# Altium footprint library Discrete.PcbLib: 39 footprints (part 2 of 3)
Each footprint in its own frame and in the unit in brackets; x right, y up, seen from the top. Pads: shape width x height; smd on the part's side, far side on the other; paste and mask are expansions set on the pad; w line width, h text height; cw(c..) or ccw(c..) is an arc to the next point about the centre after c.
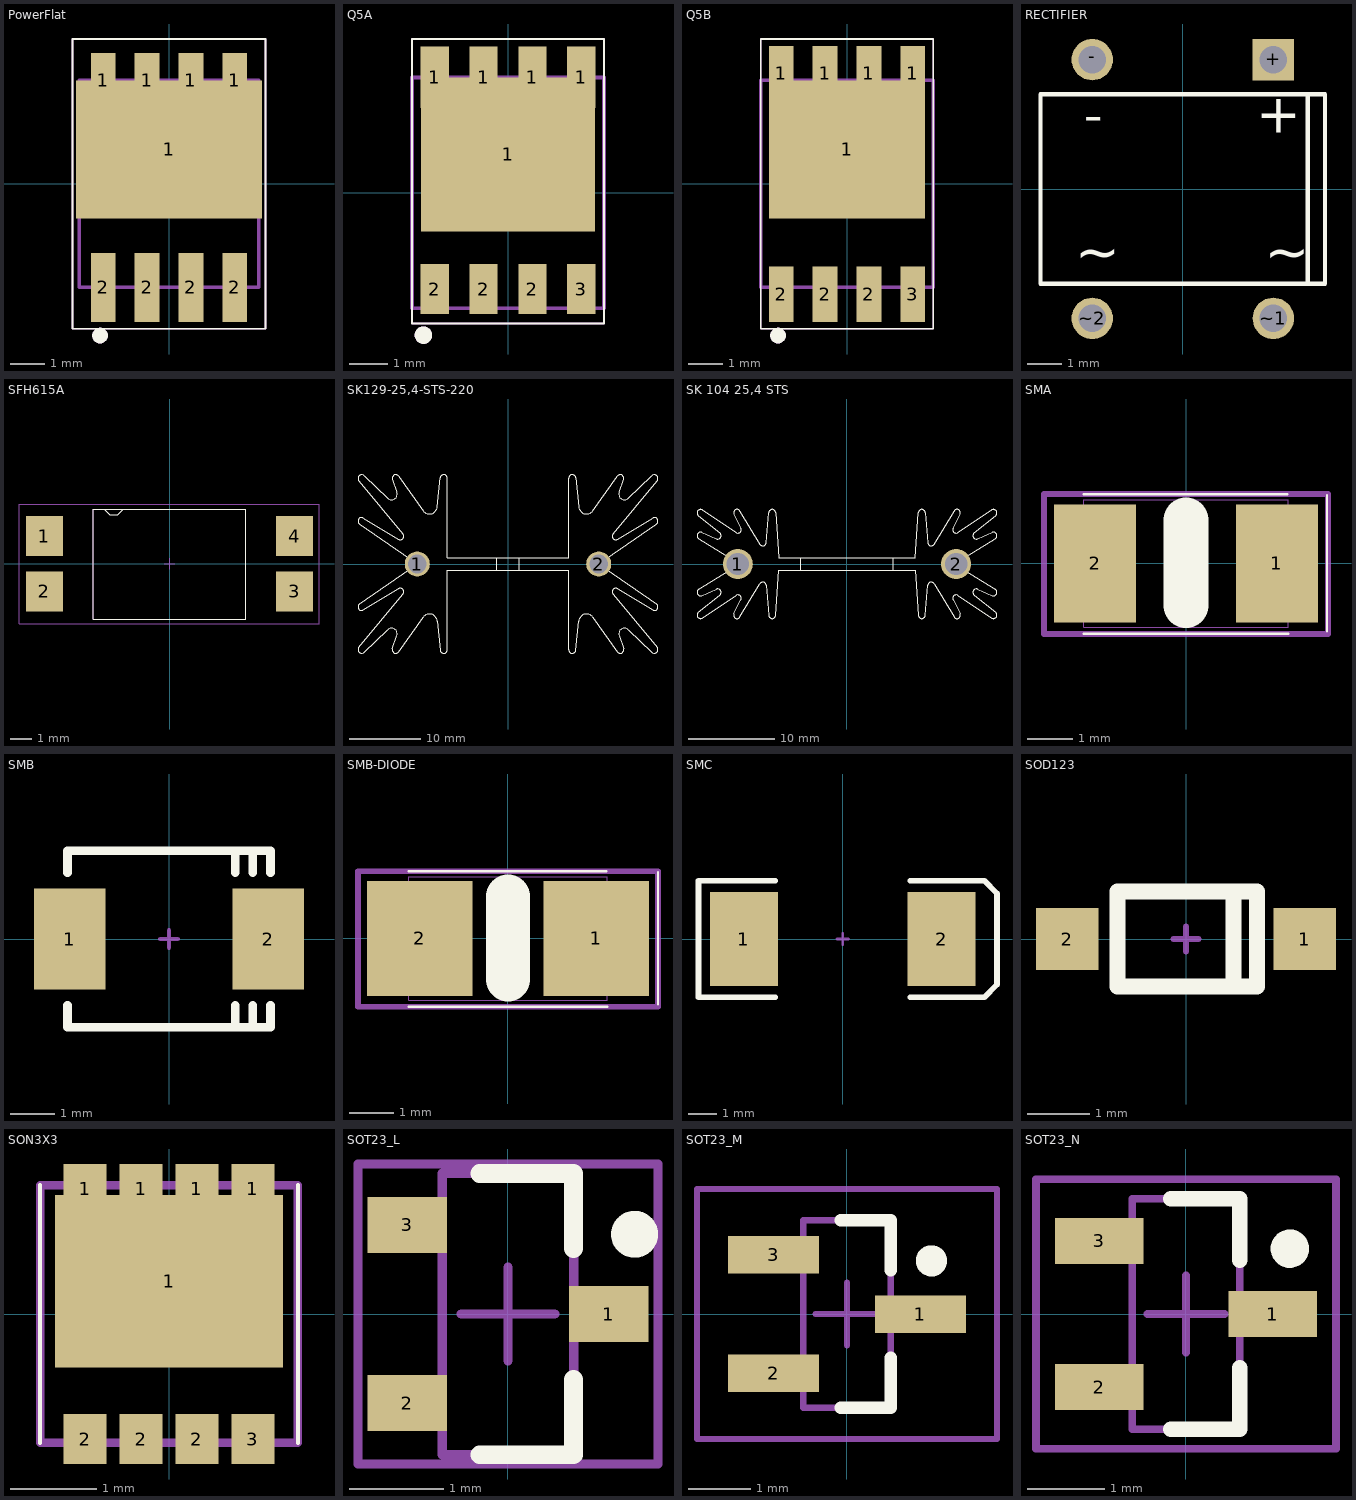
[diagram p1: the footprints below, top view; thin cyan lines are the x and y axes]

## PowerFlat [mm] "6.15mmx5.20mm"
height 1
pads (9):
  rect 0.72x1.6 smd: 1(-1.905,3) 1(-0.635,3) 1(0.635,3) 1(1.905,3)
  rect 5.4x4 smd: 1(0,1)
  rect 0.72x2 smd: 2(-1.905,-3) 2(-0.635,-3) 2(0.635,-3) 2(1.905,-3)
Top Overlay:
  circle w0.254: c-2,-4.4 r0.1
  lines w0.05: -2.8,-4.2 2.8,-4.2 2.8,4.2 -2.8,4.2 -2.8,-4.2
Mechanical 13:
  lines w0.1: -2.6,-3 -2.6,3 2.6,3 2.6,-3 -2.6,-3
Mechanical 15:
  circle w0.254: c-2,-4.4 r0.1
  lines w0.05: -2.8,-4.2 2.8,-4.2 2.8,4.2 -2.8,4.2 -2.8,-4.2
  lines w0.1: -0.475,0 0.525,0 ; 0,-0.5 0,0.5
3D body: height 1, standoff 0.1, extent -2.6,-3 2.6,3

## Q5A [mm] "Q5A-TI"
height 1.1
pads (9):
  rect 0.73x1.6 smd: 1(-1.905,3) 1(-0.635,3) 1(0.635,3) 1(1.905,3)
  rect 4.53x4 smd: 1(0,1)
  rect 0.73x1.3 smd: 2(-1.905,-2.5) 2(-0.635,-2.5) 2(0.635,-2.5) 3(1.905,-2.5)
Top Overlay:
  circle w0.254: c-2.2,-3.7 r0.1
  lines w0.05: -2.5,-3.4 -2.5,4 2.5,4 2.5,-3.4 -2.5,-3.4
Mechanical 13:
  lines w0.1: -2.5,-3 2.5,-3 2.5,3 -2.5,3 -2.5,-3
Mechanical 15:
  circle w0.254: c-2.2,-3.7 r0.1
  lines w0.05: -2.5,-3.4 -2.5,4 2.5,4 2.5,-3.4 -2.5,-3.4
  lines w0.1: -0.475,0 0.525,0 ; 0,-0.5 0,0.5
3D body: height 1, standoff 0.1, extent -2.5,-3 2.5,3

## Q5B [mm] "Q5B-TI"
height 1.1
pads (9):
  rect 0.72x1.6 smd: 1(-1.905,3.2) 1(-0.635,3.2) 1(0.635,3.2) 1(1.905,3.2) 2(-1.905,-3.2) 2(-0.635,-3.2) 2(0.635,-3.2) 3(1.905,-3.2)
  rect 4.53x4 smd: 1(0,1)
Top Overlay:
  circle w0.254: c-2,-4.4 r0.1
  lines w0.05: -2.5,-4.2 2.5,-4.2 2.5,4.2 -2.5,4.2 -2.5,-4.2
Mechanical 13:
  lines w0.1: -2.5,-3 -2.5,3 2.5,3 2.5,-3 -2.5,-3
Mechanical 15:
  circle w0.254: c-2,-4.4 r0.1
  lines w0.05: -2.5,-4.2 2.5,-4.2 2.5,4.2 -2.5,4.2 -2.5,-4.2
  lines w0.1: -0.475,0 0.525,0 ; 0,-0.5 0,0.5
3D body: height 1, standoff 0.1, extent -2.5,-3 2.5,3

## RECTIFIER [mil] "RECTIFIER"
pads (4):
  rect 48x48 hole 32: +(105,150)
  round 48 hole 32: -(-105,150) ~1(105,-150) ~2(-105,-150)
Top Overlay:
  lines w5: 145,-110 145,110 ; 145,-110 165,-110 165,110 145,110 ; 145,-110 -165,-110 -165,110 145,110
  text "-" at -115,50 h77.5
  text "+" at 85,50 h77.5
  text "~" at 95,-110 h77.5
  text "~" at -125,-110 h77.5
3D body: height 137.8, standoff 27.56, extent 145.67,-110.24 165.35,110.24
3D body: height 157.48, standoff 27.56, extent -165.35,-110.24 145.67,110.24

## SFH615A [mm] "SFH615A-3X018T"
height 3.81
pads (4):
  rect 1.7x1.85 smd: 1(-5.735,1.27) 2(-5.735,-1.27) 3(5.735,-1.27) 4(5.735,1.27)
Top Overlay:
  lines w0.05: -3,2.5 -2.75,2.25 -2.375,2.25 -2.125,2.5 ; -3.5,-2.55 -3.5,2.5 3.5,2.5 3.5,-2.55 -3.5,-2.55
Mechanical 1:
  lines w0.05: -3.5,-2.55 3.5,-2.55 3.5,2.5 -3.5,2.5 -3.5,-2.55
Mechanical 15:
  lines w0.05: -0.25,0 0.25,0 ; 0,-0.25 0,0.25 ; -6.9,-2.75 6.85,-2.75 6.85,2.725 -6.9,2.725 -6.9,-2.75
3D body: height 3.82, standoff 0, extent -3.5,-2.55 3.5,2.5
3D body: height 3.83, standoff 0, extent -3,2.25 -2.15,2.5

## SK129-25,4-STS-220 [mm] "SK129-25,4-STS-220"
height 25
pads (2):
  round 3.5 hole 2.6: 1(-12.7,0) 2(12.7,0)
Top Overlay:
  drawing of 240 lines, arcs and shapes, not listed
3D body "sk_129_25.4_sts.stp": height 25.6, standoff -4.3, extent -20.999,-12.6 20.999,12.4

## SK 104 25,4 STS [mm] "SK 104 25,4 STS"
height 25
pads (2):
  round 3.5 hole 2.6: 1(-12.7,0) 2(12.7,0)
Top Overlay:
  drawing of 248 lines, arcs and shapes, not listed
3D body "sk_104_25.4_sts.stp": height 25.6, standoff -4.3, extent -17.499,-6.3 17.399,6.4

## SMA [mm] "Diode; 2 Leads"
height 2.3
pads (2):
  rect 1.8x2.6 smd: 1(2,0) 2(-2,0)
Top Overlay:
  lines w0.05: -2.25,-1.55 2.25,-1.55 ; -2.25,1.525 2.225,1.525 ; 3.1,-1.5 3.1,1.5
  lines w1: 0,-0.925 0,0.95
Mechanical 1:
  lines w0.025: -2.25,-1.075 -2.25,-1.4 2.25,-1.4 2.25,-1.05 ; -2.25,1.05 -2.25,1.4 2.25,1.4 2.25,1.075
Mechanical 13:
  lines w0.127: -3.125,-1.55 3.125,-1.55 3.125,1.525 -3.125,1.525 -3.125,-1.55
Mechanical 15:
  lines w0.1: -0.2,0 0.2,0 ; 0,-0.2 0,0.2
3D body: height 2.3, standoff 0, extent -2.25,-1.4 1.27,1.4
3D body: height 2.3, standoff 0, extent 1.27,-1.4 2.25,1.4

## SMB [mm] "DO-214-AA/SMB; 2 C-Bend Leads; Body 5.3 x 3.6 mm, inc. leads (LxW)"
height 2.54
pads (2):
  rect 1.62x2.3 smd: 1(-2.25,0) 2(2.25,0)
Top Overlay:
  lines w0.2: -2.3,-1.5 -2.3,-2 2.3,-2 2.3,-1.5 ; -2.3,1.5 -2.3,2 2.3,2 2.3,1.5 ; 1.5,-2 1.5,-1.5 ; 1.5,1.5 1.5,2 ; 1.9,-2 1.9,-1.5 ; 1.9,1.5 1.9,2
Mechanical 15:
  lines w0.1: -0.2,0 0.2,0 ; 0,-0.2 0,0.2
3D body: height 2.6, standoff 0.1, extent 1.5,-2 2.3,2
3D body: height 2.6, standoff 0.1, extent -2.3,-2 1.5,2

## SMB-DIODE [mm] "Diode; 2 Leads"
height 2.3
pads (2):
  rect 2.4x2.6 smd: 1(2,0) 2(-2,0)
Top Overlay:
  lines w0.05: -2.25,-1.55 2.25,-1.55 ; -2.25,1.525 2.225,1.525 ; 3.4,-1.5 3.4,1.5
  lines w1: 0,-0.925 0,0.95
Mechanical 1:
  lines w0.025: -2.25,-1.075 -2.25,-1.4 2.25,-1.4 2.25,-1.05 ; -2.25,1.05 -2.25,1.4 2.25,1.4 2.25,1.075
Mechanical 13:
  lines w0.127: -3.4,-1.55 3.4,-1.55 3.4,1.525 -3.4,1.525 -3.4,-1.55
Mechanical 15:
  lines w0.1: -0.2,0 0.2,0 ; 0,-0.2 0,0.2
3D body: height 2.3, standoff 0, extent -2.25,-1.4 1.27,1.4
3D body: height 2.3, standoff 0, extent 1.27,-1.4 2.25,1.4

## SMC [mm] "DO-214-AB/SMC; 2 C-Bend Leads; Body 7.9 x 5.9 mm, inc. leads (LxW)"
height 2.65
pads (2):
  rect 2.4x3.3 smd: 1(-3.475,0) 2(3.475,0)
Top Overlay:
  lines w0.2: -2.375,-2.05 -5.075,-2.05 -5.075,2.05 -2.375,2.05 ; 2.375,-2.05 4.975,-2.05 5.425,-1.6 5.425,1.6 4.975,2.055 ; 2.375,2.05 4.975,2.05
Mechanical 1:
  lines w0.1: -0.2,0 0.2,0 ; 0,-0.2 0,0.2

## SOD123 [mm]
height 1.4
pads (2):
  rect 1x1 smd: 1(1.905,0) 2(-1.905,0)
Top Overlay:
  lines w0.254: 0.762,-0.762 0.762,0.762 ; -1.1,-0.762 1.14,-0.762 1.14,0.762 -1.1,0.762 -1.1,-0.762
Mechanical 1:
  lines w0.1: -0.2,0 0.2,0 ; 0,-0.2 0,0.2
3D body: height 1.4, standoff 0, extent -1.4,-0.825 0.899,0.875
3D body: height 1.4, standoff 0, extent 0.775,-0.85 1.4,0.85

## SON3X3 [mm] "SON3X3"
height 1.1
pads (9):
  rect 0.5x0.58 smd: 1(-0.975,1.455) 1(-0.325,1.455) 1(0.325,1.455) 1(0.975,1.455) 2(-0.975,-1.455) 2(-0.325,-1.455) 2(0.325,-1.455) 3(0.975,-1.455)
  rect 2.65x2.01 smd: 1(0,0.38)
Top Overlay:
  lines w0.05: -1.5,-1.5 -1.5,1.5 ; 1.5,-1.5 1.5,1.5
Mechanical 13:
  lines w0.1: -1.5,-1.5 -1.5,1.5 1.5,1.5 1.5,-1.5 -1.5,-1.5
Mechanical 15:
  lines w0.05: -1.5,-1.5 1.5,-1.5 1.5,1.5 -1.5,1.5 -1.5,-1.5
  lines w0.1: -0.475,0 0.525,0 ; 0,-0.5 0,0.5
3D body: height 1, standoff 0.1, extent -1.5,-1.5 1.5,1.5

## SOT23_L [mm] "SOT23, 3-Leads, Body 2.9x1.3mm, Pitch 0.95mm, Lead Span 2.3mm - Reverse Pinning, IPC High Density"
height 1.1
pads (3):
  rect 0.85x0.6 smd: 1(1.075,0) 2(-1.075,-0.95) 3(-1.075,0.95)
Top Overlay:
  circle w0.25: c1.35,0.85 r0.125
  lines w0.2: -0.3,-1.5 0.7,-1.5 0.7,-0.7 ; -0.3,1.5 0.7,1.5 0.7,0.7
Mechanical 13:
  lines w0.1: -0.7,-1.5 0.7,-1.5 0.7,1.5 -0.7,1.5 -0.7,-1.5
Mechanical 15:
  lines w0.1: -0.5,0 0.5,0 ; 0,-0.5 0,0.5 ; -1.6,-1.6 1.6,-1.6 1.6,1.6 -1.6,1.6 -1.6,-1.6
3D body "SOT-23.STEP": height 1.1, standoff 0, extent -1.25,-1.5 1.05,1.5

## SOT23_M [mm] "SOT23, 3-Leads, Body 2.9x1.3mm, Pitch 0.95mm, Lead Span 2.3mm - Reverse Pinning, IPC Low Density"
height 1.1
pads (3):
  rect 1.45x0.6 smd: 1(1.175,0) 2(-1.175,-0.95) 3(-1.175,0.95)
Top Overlay:
  circle w0.25: c1.35,0.85 r0.125
  lines w0.2: -0.1,-1.5 0.7,-1.5 0.7,-0.7 ; -0.1,1.5 0.7,1.5 0.7,0.7
Mechanical 13:
  lines w0.1: -0.7,-1.5 0.7,-1.5 0.7,1.5 -0.7,1.5 -0.7,-1.5
Mechanical 15:
  lines w0.1: -0.5,0 0.5,0 ; 0,-0.5 0,0.5 ; -2.4,-2 2.4,-2 2.4,2 -2.4,2 -2.4,-2
3D body "SOT-23.STEP": height 1.1, standoff 0, extent -1.25,-1.5 1.05,1.5

## SOT23_N [mm] "SOT23, 3-Leads, Body 2.9x1.3mm, Pitch 0.95mm, Lead Span 2.3mm - Reverse Pinning, IPC Medium Density"
height 1.1
pads (3):
  rect 1.15x0.6 smd: 1(1.125,0) 2(-1.125,-0.95) 3(-1.125,0.95)
Top Overlay:
  circle w0.25: c1.35,0.85 r0.125
  lines w0.2: -0.2,-1.5 0.7,-1.5 0.7,-0.7 ; -0.2,1.5 0.7,1.5 0.7,0.7
Mechanical 13:
  lines w0.1: -0.7,-1.5 -0.7,1.5 0.7,1.5 0.7,-1.5 -0.7,-1.5
Mechanical 15:
  lines w0.1: -0.5,0 0.5,0 ; 0,-0.5 0,0.5 ; -1.95,-1.75 -1.95,1.75 1.95,1.75 1.95,-1.75 -1.95,-1.75
3D body "SOT-23.STEP": height 1.1, standoff 0, extent -1.25,-1.5 1.05,1.5